# Altium footprint library PcbLib1.PcbLib: 21 footprints (part 1 of 2)
Each footprint in its own frame and in the unit in brackets; x right, y up, seen from the top. Pads: shape width x height; smd on the part's side, far side on the other; paste and mask are expansions set on the pad; w line width, h text height; cw(c..) or ccw(c..) is an arc to the next point about the centre after c.
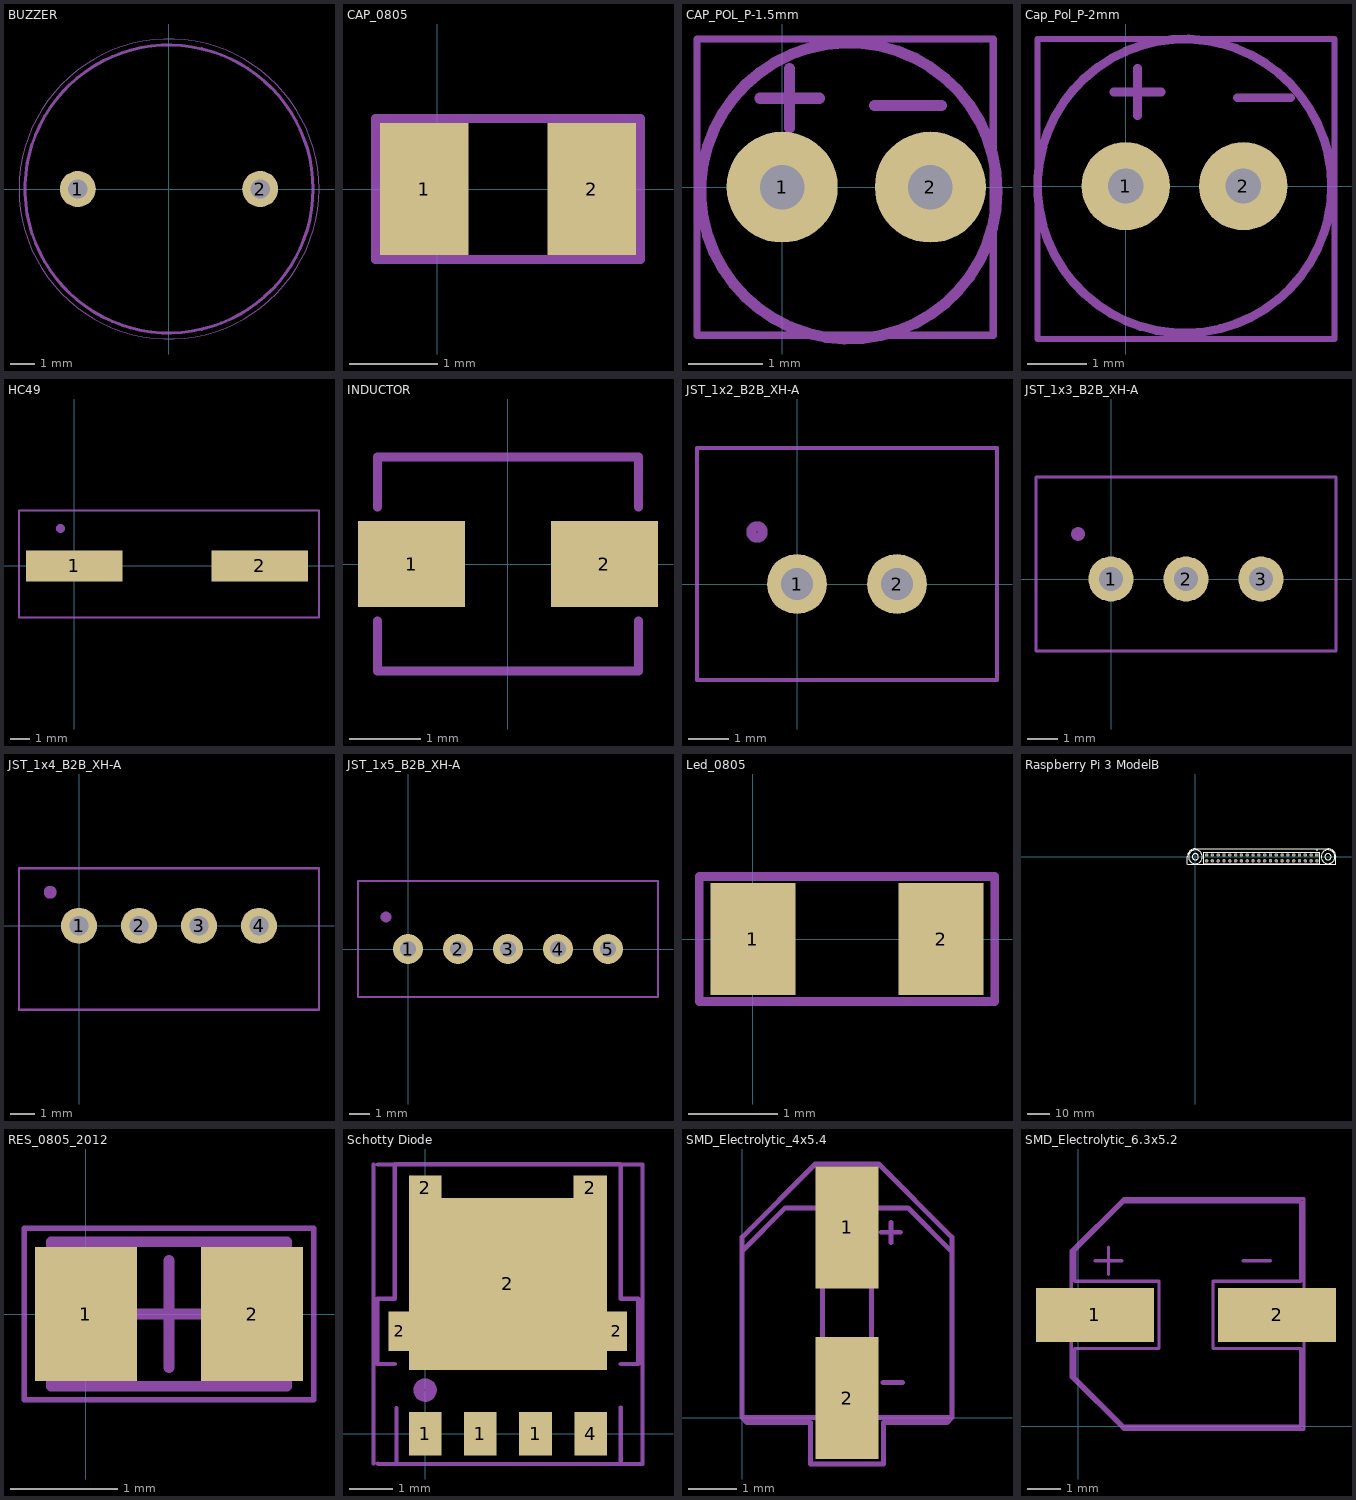
[diagram p0: the footprints below, top view; thin cyan lines are the x and y axes]

## BUZZER [mm]
pads (2):
  round 1.5 hole 0.8: 1(-3.8,0) 2(3.8,0)
Mechanical 13:
  circle w0.05: c0,0 r6.25
  circle w0.127: c0,0 r6
Mechanical 15:
  circle w0.127: c0,0 r6
  text "-" at 3.556,-2.54 h1.27
  text "+" at -4.318,-2.286 h1.27
3D body "Buzzer.step": height 9.56, standoff -5.44, extent -6,-5.925 6,6.075

## CAP_0805 [mm]
pads (2):
  rect 1x1.5 smd mask+0.05: 1(-0.15,0) 2(1.75,0)
Mechanical 1:
  lines w0.1: -0.7,-0.8 2.3,-0.8 2.3,0.8 -0.7,0.8 -0.7,-0.8
3D body "User Library-Chip Cap_MLCC_0805 (2012)_B (1).step": height 0.8, standoff 0, extent -0.2,-0.65 1.8,0.6

## CAP_POL_P-1.5mm [mm]
pads (2):
  round 1.5 hole 0.6 mask+0.05: 1(0,0) 2(2,0)
Mechanical 13:
  lines w0.1: -1.15,-2 -1.15,2 2.85,2 2.85,-2 -1.15,-2
Mechanical 15:
  circle w0.15: c0.9,-0.05 r2
  lines w0.15: -0.3,1.2 0.5,1.2 ; 0.1,0.8 0.1,1.6 ; 1.25,1.1 2.15,1.1
3D body "Radial_2mm.STEP": height 11, standoff -3, extent -1.5,-2.5 3.501,2.5

## Cap_Pol_P-2mm [mm]
pads (2):
  round 1.5 hole 0.6 mask+0.05: 1(0,0) 2(2,0)
Mechanical 1:
  lines w0.1: -1.5,-2.6 -0.238,-2.6 2.288,-2.6 3.55,-2.6 3.55,2.5 -1.5,2.5 -1.5,-2.6
Mechanical 15:
  circle w0.15: c1,0 r2.5
  lines w0.15: -0.2,1.6 0.6,1.6 ; 0.2,1.2 0.2,2 ; 1.9,1.5 2.8,1.5
3D body "User Library-CapAluRadial_D50H110P20.STEP": height 11, standoff -3, extent -1.5,-2.5 3.5,2.499

## HC49 [mm]
pads (2):
  rect 4.91x1.57 smd: 1(0,0) 2(9.4,0)
Mechanical 1:
  lines w0.1: -2.8,-2.6 12.4,-2.6 12.4,2.8 -2.8,2.8 -2.8,-2.6
Mechanical 15:
  circle w0.254: c-0.7,1.9 r0.1
  lines w0.1: 2.4,-2.6 -2.8,-2.6 -2.8,0.3 -2.8,2.8 2.4,2.8 ; 6.9,-2.6 12.1,-2.6 12.4,-2.6 12.4,2.8 6.9,2.8
3D body "crystal-smd.STEP": height 4.3, standoff 0, extent -2,-2.4 11.5,2.6

## INDUCTOR [mm]
pads (2):
  rect 1.5x1.2 smd: 1(-1.35,0) 2(1.35,0)
Mechanical 15:
  lines w0.127: -1.825,-0.8 -1.825,-1.5 1.825,-1.5 1.825,-0.8 ; -1.825,0.8 -1.825,1.5 1.825,1.5 1.825,0.8
3D body "uH.STEP": height 2, standoff 0, extent -1.925,-1.5 1.925,1.5

## JST_1x2_B2B_XH-A [mm] "JST_B2B_XH-A1x2 PCB Header"
pads (2):
  round 1.5 hole 0.8 mask+0.05: 1(0,0) 2(2.5,0)
Mechanical 1:
  lines w0.1: -2.5,-2.4 5,-2.4 5,3.4 -2.5,3.4 -2.5,-2.4
Mechanical 15:
  circle w0.254: c-1,1.3 r0.141
  lines w0.1: -2.5,-2.4 -2.5,3.4 5,3.4 5,-2.4 -2.5,-2.4
3D body "User Library-PW10-XX-M white.step": height 7, standoff -3.3, extent -2.5,-2.35 5,3.35

## JST_1x3_B2B_XH-A [mm]
pads (3):
  round 1.5 hole 0.8 mask+0.05: 1(0,0) 2(2.5,0) 3(5,0)
Mechanical 1:
  lines w0.1: -2.5,-2.4 -2.5,3.4 7.5,3.4 7.5,-2.4 -2.5,-2.4
Mechanical 15:
  circle w0.254: c-1.1,1.5 r0.1
  lines w0.1: -2.5,-2.4 7.5,-2.4 7.5,3.4 -2.5,3.4 -2.5,-2.4
3D body "JST_B2B_XH-A1x3.step": height 7.5, standoff -2.9, extent -2.45,-2.375 7.45,3.375

## JST_1x4_B2B_XH-A [mm]
pads (4):
  round 1.5 hole 0.8 mask+0.05: 1(0,0) 2(2.5,0) 3(5,0) 4(7.5,0)
Mechanical 1:
  lines w0.1: -2.5,-3.5 -2.5,2.4 10,2.4 10,-3.5 -2.5,-3.5
Mechanical 15:
  circle w0.254: c-1.2,1.4 r0.141
  lines w0.1: -2.5,-3.5 10,-3.5 10,2.4 -2.5,2.4 -2.5,-3.5
3D body "JST_B2B_XH-A_1x4.step": height 7.5, standoff -2.9, extent -2.5,-3.4 9.9,2.35

## JST_1x5_B2B_XH-A [mm]
pads (5):
  round 1.5 hole 0.8 mask+0.05: 1(0,0) 2(2.5,0) 3(5,0) 4(7.5,0) 5(10,0)
Mechanical 1:
  lines w0.1: -2.5,-2.4 12.5,-2.4 12.5,3.4 -2.5,3.4 -2.5,-2.4
Mechanical 15:
  circle w0.254: c-1.1,1.6 r0.141
  lines w0.1: -2.5,-2.4 12.4,-2.4 12.5,-2.4 12.5,3.4 -2.5,3.4 -2.5,-2.4
3D body "JST_B2B_XH-A1x5.step": height 7.5, standoff -2.9, extent -2.45,-2.35 12.45,3.4

## Led_0805 [mm]
pads (2):
  rect 0.95x1.25 smd mask+0.05: 1(0,0) 2(2.1,0)
Mechanical 1:
  lines w0.1: -0.6,-0.7 -0.6,0.7 2.7,0.7 2.7,-0.7 -0.6,-0.7
3D body "LED_0805.STEP": height 0.78, standoff -0.02, extent 0.03,-0.625 2.03,0.625

## Raspberry Pi 3 ModelB [mm]
pads (40):
  round 1.5 hole 1: 1(4.94,-1.84) 2(4.94,0.7) 3(7.48,-1.84) 4(7.48,0.7) 5(10.02,-1.84) 6(10.02,0.7) 7(12.56,-1.84) 8(12.56,0.7) 9(15.1,-1.84) 10(15.1,0.7) 11(17.64,-1.84) 12(17.64,0.7) 13(20.18,-1.84) 14(20.18,0.7) 15(22.72,-1.84) 16(22.72,0.7) 17(25.26,-1.84) 18(25.26,0.7) 19(27.8,-1.84) 20(27.8,0.7) 21(30.34,-1.84) 22(30.34,0.7) 23(32.88,-1.84) 24(32.88,0.7) 25(35.42,-1.84) 26(35.42,0.7) 27(37.96,-1.84) 28(37.96,0.7) 29(40.5,-1.84) 30(40.5,0.7) 31(43.04,-1.84) 32(43.04,0.7) 33(45.58,-1.84) 34(45.58,0.7) 35(48.12,-1.84) 36(48.12,0.7) 37(50.66,-1.84) 38(50.66,0.7) 39(53.2,-1.84)
  rect 1.5x1.5 hole 1: 40(53.2,0.7)
Top Overlay:
  circle w0.2: c53.2,2.94 r0.1
  circle w0.1: c58.045,-0.07 r3
  circle w0.1: c58.045,-0.07 r1.35
  circle w0.1: c0.045,-0.07 r3
  circle w0.1: c0.045,-0.07 r1.35
  lines w0.1: -3.455,-3.3 -3.455,-0.07 cw(c0.045,-0.07) 0.045,3.43 58.045,3.43 cw(c58.045,-0.07) 61.545,-0.07 61.545,-3.3 59.934,-3.3 56.711,-3.3 55.1,-3.3 ; -3.4,-3.3 54.1,-3.3 55.05,-3.3
  lines w0.127: 3.735,-3.08 3.735,1.94 54.405,1.94 54.405,-3.08 3.735,-3.08
Mechanical 1:
  region: -69.68,-75.495
Mechanical 4:
  circle w0.2: c53.2,2.94 r0.1
  lines w0.127: 3.735,-3.08 54.405,-3.08 ; 3.735,-3.08 54.405,-3.08 ; 3.735,-3.08 3.735,1.94 ; 3.735,-3.08 3.735,1.94 ; 3.735,1.94 54.405,1.94 ; 3.735,1.94 54.405,1.94 ; 54.405,-3.08 54.405,1.94 ; 54.405,-3.08 54.405,1.94
3D body "pin header.STEP": height 3.08, standoff -13.62, extent 3.395,-3.145 54.695,1.855

## RES_0805_2012 [mm]
pads (2):
  rect 0.95x1.25 smd: 1(0,0) 2(1.55,0)
Mechanical 13:
  lines w0.1: -0.325,-0.675 -0.325,0.675 1.875,0.675 1.875,-0.675 -0.325,-0.675
Mechanical 15:
  lines w0.05: -0.575,-0.8 -0.575,0.8 2.125,0.8 2.125,-0.8 -0.575,-0.8
  lines w0.1: 0.275,0 1.275,0 ; 0.775,-0.5 0.775,0.5
3D body "0805 resistor.STEP": height 0.6, standoff 0, extent -0.175,-0.625 1.825,0.625

## Schotty Diode [mm]
pads (9):
  rect 0.75x1 smd: 1(0,0) 1(1.27,0) 1(2.54,0) 4(3.81,0)
  rect 0.495x0.905 smd: 2(-0.6,2.35) 2(4.4,2.35)
  rect 0.75x0.575 smd: 2(0,5.65)
  rect 4.56x3.955 smd: 2(1.905,3.443)
  rect 0.77x0.575 smd: 2(3.8,5.65)
Top Paste:
  region: 0.654,4.902 3.155,4.902 3.155,2.017 0.654,2.017
Mechanical 1:
  lines w0.1: -1.187,-0.689 -1.187,3.094 -1.187,6.187 ; -1.087,-0.689 -1.076,-0.7 5,-0.7 5,6.187 -1.087,6.187
Mechanical 15:
  circle w0.254: c0,1 r0.141
  lines w0.1: -0.7,1.6 -1.1,1.6 -1.1,3.1 -0.7,3.1 -0.7,6.2 4.5,6.2 4.5,3.1 4.9,3.1 4.9,1.6 4.5,1.6 ; -0.657,0.59 -0.657,-0.7 4.5,-0.7 4.5,-0.5 4.5,0.6
3D body "User Library-DFN5x6_SO8FL.STEP": height 1.13, standoff 0, extent -0.65,-0.075 4.5,6.075

## SMD_Electrolytic_4x5.4 [mm]
pads (2):
  rect 1.3x2.5 smd mask+0.05: 1(2.15,3.9) 2(2.15,0.4)
Top Layer:
  pour cut-out: 0.5,3.1
Mechanical 13:
  lines w0.1: 0,0 0.1,-0.1 1.4,-0.1 1.4,-0.95 2.9,-0.95 2.9,-0.1 4.2,-0.1 4.3,0 4.3,3.7 2.8,5.2 1.5,5.2 0,3.7 0,0
Mechanical 15:
  lines w0.1: 2.85,3.8 3.25,3.8 ; 2.886,0.717 3.286,0.717 ; 3.049,4.005 3.05,3.593 ; 0,0 1.65,0 1.65,4.3 0.884,4.3 0,3.416 0,0 ; 2.65,0 2.65,4.3 3.4,4.3 4.3,3.4 4.3,0 2.65,0
3D body "CAP SMD SVP 4_0x5_4.STEP": height 5.4, standoff 0, extent 0,-0.35 4.3,4.65

## SMD_Electrolytic_6.3x5.2 [mm]
pads (2):
  rect 3.5x1.6 smd mask+0.05: 1(0.5,3.3) 2(5.9,3.3)
Mechanical 13:
  lines w0.1: -0.2,1.45 -0.2,5.2 1.35,6.75 6.7,6.75 6.7,-0.1 1.35,-0.1 -0.2,1.45
Mechanical 15:
  lines w0.1: 0.5,4.9 1.3,4.9 ; 0.9,4.5 0.9,5.3 ; 4.9,4.9 5.7,4.9 ; 6.5,6.65 5.45,6.65 1.35,6.65 -0.1,5.2 -0.1,4.3 2.4,4.3 2.4,2.3 -0.1,2.3 -0.1,1.45 1.35,0 5.1,0 6.5,0 6.6,0 6.6,2.3 6.5,2.3 4,2.3 4,4.3 6.5,4.3 6.6,4.3 6.6,6.65 6.5,6.65 ; 6.5,6.65 6.5,6.65
3D body "SMT_CAP_D6.3.stp": height 5.62, standoff -0.04, extent -0.6,-0.1 7,6.7